# Altium integrated library WE-CAIR Air coil.IntLib: 19 symbols
Pins are listed as number, name and electrical type; pins without a type are passive.

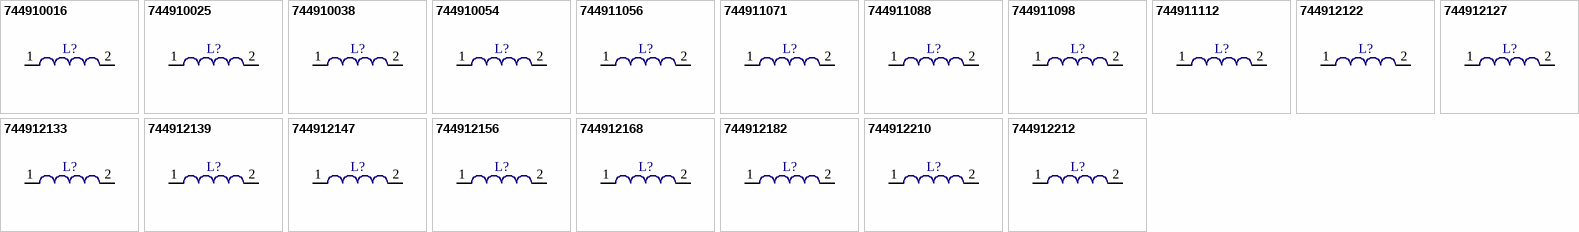
[diagram p0: symbols 744910016 to 744912212]

## 744910016
designator L?
WE-CAIR Air Coil, L=1.65 nH; PartNumber: 744910016; Inductance: 1.65 nH; PackageReference: WE-CAIR_1322; ComponentLink1Description: Manufacturer URL; ComponentLink1URL: http://www.we-online.com; ComponentLink2Description: Datasheet; ComponentLink2URL: http://katalog.we-online.de/kataloge/eisos/media/pdf/744910016.pdf
footprint WE-CAIR_1322 (SMD Inductor, 2-Leads, Body 2.21 x 1.42mm)
pins: 1, 2

## 744910025
designator L?
WE-CAIR Air Coil, L=2.55 nH; PartNumber: 744910025; Inductance: 2.55 nH; PackageReference: WE-CAIR_1322; ComponentLink1Description: Manufacturer URL; ComponentLink1URL: http://www.we-online.com; ComponentLink2Description: Datasheet; ComponentLink2URL: http://katalog.we-online.de/kataloge/eisos/media/pdf/744910025.pdf
footprint WE-CAIR_1322 (SMD Inductor, 2-Leads, Body 2.21 x 1.42mm)
pins: 1, 2

## 744910038
designator L?
WE-CAIR Air Coil, L=3.85 nH; PartNumber: 744910038; Inductance: 3.85 nH; PackageReference: WE-CAIR_1322; ComponentLink1Description: Manufacturer URL; ComponentLink1URL: http://www.we-online.com; ComponentLink2Description: Datasheet; ComponentLink2URL: http://katalog.we-online.de/kataloge/eisos/media/pdf/744910038.pdf
footprint WE-CAIR_1322 (SMD Inductor, 2-Leads, Body 2.21 x 1.42mm)
pins: 1, 2

## 744910054
designator L?
WE-CAIR Air Coil, L=5.45 nH; PartNumber: 744910054; Inductance: 5.45 nH; PackageReference: WE-CAIR_1322; ComponentLink1Description: Manufacturer URL; ComponentLink1URL: http://www.we-online.com; ComponentLink2Description: Datasheet; ComponentLink2URL: http://katalog.we-online.de/kataloge/eisos/media/pdf/744910054.pdf
footprint WE-CAIR_1322 (SMD Inductor, 2-Leads, Body 2.21 x 1.42mm)
pins: 1, 2

## 744911056
designator L?
WE-CAIR Air Coil, L=5.6 nH; PartNumber: 744911056; Inductance: 5.6 nH; PackageReference: WE-CAIR_1340; ComponentLink1Description: Manufacturer URL; ComponentLink1URL: http://www.we-online.com; ComponentLink2Description: Datasheet; ComponentLink2URL: http://katalog.we-online.de/kataloge/eisos/media/pdf/744911056.pdf
footprint WE-CAIR_1340 (SMD Inductor, 2-Leads, Body 4.04 x 1.42mm)
pins: 1, 2

## 744911071
designator L?
WE-CAIR Air Coil, L=7.15 nH; PartNumber: 744911071; Inductance: 7.15 nH; PackageReference: WE-CAIR_1340; ComponentLink1Description: Manufacturer URL; ComponentLink1URL: http://www.we-online.com; ComponentLink2Description: Datasheet; ComponentLink2URL: http://katalog.we-online.de/kataloge/eisos/media/pdf/744911071.pdf
footprint WE-CAIR_1340 (SMD Inductor, 2-Leads, Body 4.04 x 1.42mm)
pins: 1, 2

## 744911088
designator L?
WE-CAIR Air Coil, L=8.8 nH; PartNumber: 744911088; Inductance: 8.8 nH; PackageReference: WE-CAIR_1340; ComponentLink1Description: Manufacturer URL; ComponentLink1URL: http://www.we-online.com; ComponentLink2Description: Datasheet; ComponentLink2URL: http://katalog.we-online.de/kataloge/eisos/media/pdf/744911088.pdf
footprint WE-CAIR_1340 (SMD Inductor, 2-Leads, Body 4.04 x 1.42mm)
pins: 1, 2

## 744911098
designator L?
WE-CAIR Air Coil, L=9.85 nH; PartNumber: 744911098; Inductance: 9.85 nH; PackageReference: WE-CAIR_1340; ComponentLink1Description: Manufacturer URL; ComponentLink1URL: http://www.we-online.com; ComponentLink2Description: Datasheet; ComponentLink2URL: http://katalog.we-online.de/kataloge/eisos/media/pdf/744911098.pdf
footprint WE-CAIR_1340 (SMD Inductor, 2-Leads, Body 4.04 x 1.42mm)
pins: 1, 2

## 744911112
designator L?
WE-CAIR Air Coil, L=12.55 nH; PartNumber: 744911112; PackageReference: WE-CAIR_1340; Inductance: 12.55 nH; ComponentLink1Description: Manufacturer URL; ComponentLink1URL: http://www.we-online.com; ComponentLink2Description: Datasheet; ComponentLink2URL: http://katalog.we-online.de/kataloge/eisos/media/pdf/744911112.pdf
footprint WE-CAIR_1340 (SMD Inductor, 2-Leads, Body 4.04 x 1.42mm)
pins: 1, 2

## 744912122
designator L?
WE-CAIR Air Coil, L=22 nH; PartNumber: 744912122; Inductance: 22 nH; PackageReference: WE-CAIR_4248; ComponentLink1Description: Manufacturer URL; ComponentLink1URL: http://www.we-online.com; ComponentLink2Description: Datasheet; ComponentLink2URL: http://katalog.we-online.de/kataloge/eisos/media/pdf/744912122.pdf
footprint WE-CAIR_4248 (SMD Inductor, 2-Leads, Body 4.83 x 6.36mm)
pins: 1, 2

## 744912127
designator L?
WE-CAIR Air Coil, L=27 nH; PartNumber: 744912127; Inductance: 27 nH; PackageReference: WE-CAIR_4248; ComponentLink1Description: Manufacturer URL; ComponentLink1URL: http://www.we-online.com; ComponentLink2Description: Datasheet; ComponentLink2URL: http://katalog.we-online.de/kataloge/eisos/media/pdf/744912127.pdf
footprint WE-CAIR_4248 (SMD Inductor, 2-Leads, Body 4.83 x 6.36mm)
pins: 1, 2

## 744912133
designator L?
WE-CAIR Air Coil, L=33 nH; PartNumber: 744912133; Inductance: 33 nH; PackageReference: WE-CAIR_4248; ComponentLink1Description: Manufacturer URL; ComponentLink1URL: http://www.we-online.com; ComponentLink2Description: Datasheet; ComponentLink2URL: http://katalog.we-online.de/kataloge/eisos/media/pdf/744912133.pdf
footprint WE-CAIR_4248 (SMD Inductor, 2-Leads, Body 4.83 x 6.36mm)
pins: 1, 2

## 744912139
designator L?
WE-CAIR Air Coil, L=39 nH; PartNumber: 744912139; Inductance: 39 nH; PackageReference: WE-CAIR_4248; ComponentLink1Description: Manufacturer URL; ComponentLink1URL: http://www.we-online.com; ComponentLink2Description: Datasheet; ComponentLink2URL: http://katalog.we-online.de/kataloge/eisos/media/pdf/744912139.pdf
footprint WE-CAIR_4248 (SMD Inductor, 2-Leads, Body 4.83 x 6.36mm)
pins: 1, 2

## 744912147
designator L?
WE-CAIR Air Coil, L=47 nH; PartNumber: 744912147; Inductance: 47 nH; PackageReference: WE-CAIR_4248; ComponentLink1Description: Manufacturer URL; ComponentLink1URL: http://www.we-online.com; ComponentLink2Description: Datasheet; ComponentLink2URL: http://katalog.we-online.de/kataloge/eisos/media/pdf/744912147.pdf
footprint WE-CAIR_4248 (SMD Inductor, 2-Leads, Body 4.83 x 6.36mm)
pins: 1, 2

## 744912156
designator L?
WE-CAIR Air Coil, L=56 nH; PartNumber: 744912156; Inductance: 56 nH; PackageReference: WE-CAIR_4248; ComponentLink1Description: Manufacturer URL; ComponentLink1URL: http://www.we-online.com; ComponentLink2Description: Datasheet; ComponentLink2URL: http://katalog.we-online.de/kataloge/eisos/media/pdf/744912156.pdf
footprint WE-CAIR_4248 (SMD Inductor, 2-Leads, Body 4.83 x 6.36mm)
pins: 1, 2

## 744912168
designator L?
WE-CAIR Air Coil, L=68 nH; PartNumber: 744912168; Inductance: 68 nH; PackageReference: WE-CAIR_4248; ComponentLink1Description: Manufacturer URL; ComponentLink1URL: http://www.we-online.com; ComponentLink2Description: Datasheet; ComponentLink2URL: http://katalog.we-online.de/kataloge/eisos/media/pdf/744912168.pdf
footprint WE-CAIR_4248 (SMD Inductor, 2-Leads, Body 4.83 x 6.36mm)
pins: 1, 2

## 744912182
designator L?
WE-CAIR Air Coil, L=82 nH; PartNumber: 744912182; Inductance: 82 nH; PackageReference: WE-CAIR_4248; ComponentLink1Description: Manufacturer URL; ComponentLink1URL: http://www.we-online.com; ComponentLink2Description: Datasheet; ComponentLink2URL: http://katalog.we-online.de/kataloge/eisos/media/pdf/744912182.pdf
footprint WE-CAIR_4248 (SMD Inductor, 2-Leads, Body 4.83 x 6.36mm)
pins: 1, 2

## 744912210
designator L?
WE-CAIR Air Coil, L=100 nH; PartNumber: 744912210; Inductance: 100 nH; PackageReference: WE-CAIR_4248; ComponentLink1Description: Manufacturer URL; ComponentLink1URL: http://www.we-online.com; ComponentLink2Description: Datasheet; ComponentLink2URL: http://katalog.we-online.de/kataloge/eisos/media/pdf/744912210.pdf
footprint WE-CAIR_4248 (SMD Inductor, 2-Leads, Body 4.83 x 6.36mm)
pins: 1, 2

## 744912212
designator L?
WE-CAIR Air Coil, L=120 nH; PartNumber: 744912212; Inductance: 120 nH; PackageReference: WE-CAIR_4248; ComponentLink1Description: Manufacturer URL; ComponentLink1URL: http://www.we-online.com; ComponentLink2Description: Datasheet; ComponentLink2URL: http://katalog.we-online.de/kataloge/eisos/media/pdf/744912212.pdf
footprint WE-CAIR_4248 (SMD Inductor, 2-Leads, Body 4.83 x 6.36mm)
pins: 1, 2